# EAGLE library part USB251X (library Microchip)
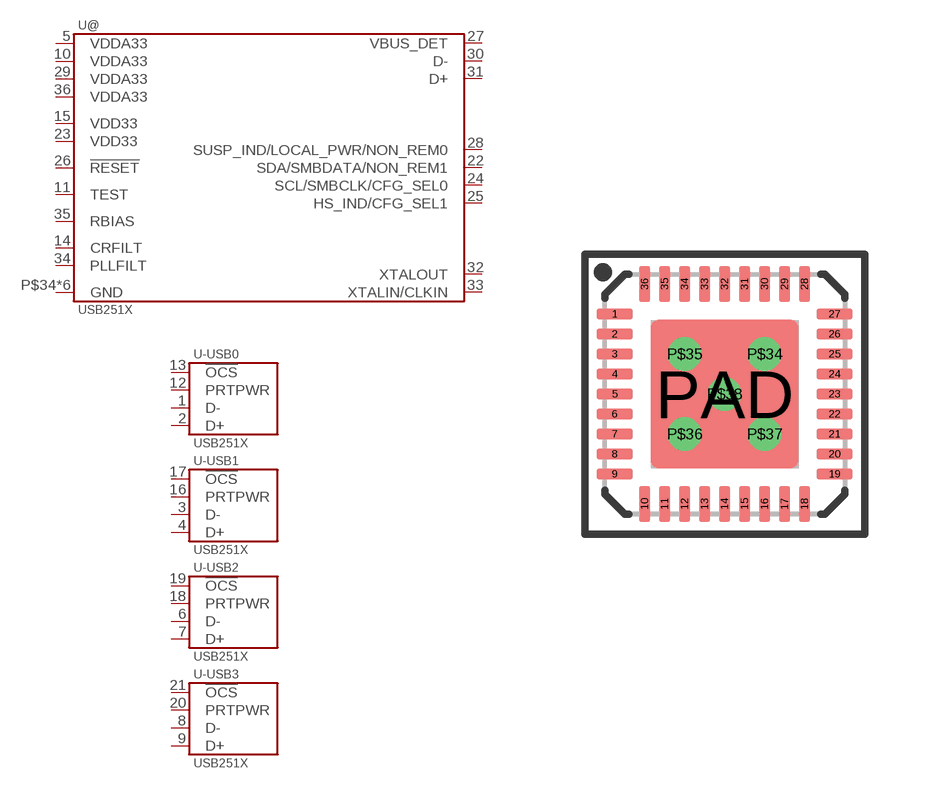
[diagram p14: symbol with the pads of QFN-36; footprint QFN-36]

Designator prefix U; gates @=USB251X -USB0=USB251X-USB -USB1=USB251X-USB -USB2=USB251X-USB -USB3=USB251X-USB

## USB251XB  [QFN-36]
1  -USB0:D-
2  -USB0:D+
3  -USB1:D-
4  -USB1:D+
5  @:VDDA33
6  -USB2:D-
7  -USB2:D+
8  -USB3:D-
9  -USB3:D+
10  @:VDDA33
11  @:TEST
12  -USB0:PRTPWR
13  -USB0:!OCS
14  @:CRFILT
15  @:VDD33
16  -USB1:PRTPWR
17  -USB1:!OCS
18  -USB2:PRTPWR
19  -USB2:!OCS
20  -USB3:PRTPWR
21  -USB3:!OCS
22  @:SDA/SMBDATA/NON_REM1
23  @:VDD33
24  @:SCL/SMBCLK/CFG_SEL0
25  @:HS_IND/CFG_SEL1
26  @:!RESET
27  @:VBUS_DET
28  @:SUSP_IND/LOCAL_PWR/NON_REM0
29  @:VDDA33
30  @:D-
31  @:D+
32  @:XTALOUT
33  @:XTALIN/CLKIN
34  @:PLLFILT
35  @:RBIAS
36  @:VDDA33
P$34  @:GND
P$35  @:GND
P$36  @:GND
P$37  @:GND
P$38  @:GND
PAD  @:GND

## Footprint QFN-36 (pad centres in mm)
smd 0.9 x 0.28: 1 -2.75,2; 2 -2.75,1.5; 3 -2.75,1; 4 -2.75,0.5; 5 -2.75,0; 6 -2.75,-0.5; 7 -2.75,-1; 8 -2.75,-1.5; 9 -2.75,-2; 19 2.75,-2; 20 2.75,-1.5; 21 2.75,-1; 22 2.75,-0.5; 23 2.75,0; 24 2.75,0.5; 25 2.75,1; 26 2.75,1.5; 27 2.75,2
smd 0.28 x 0.9: 10 -2,-2.75; 11 -1.5,-2.75; 12 -1,-2.75; 13 -0.5,-2.75; 14 0,-2.75; 15 0.5,-2.75; 16 1,-2.75; 17 1.5,-2.75; 18 2,-2.75; 28 2,2.75; 29 1.5,2.75; 30 1,2.75; 31 0.5,2.75; 32 0,2.75; 33 -0.5,2.75; 34 -1,2.75; 35 -1.5,2.75; 36 -2,2.75
drill 0.33: P$34 1,1; P$35 -1,1; P$36 -1,-1; P$37 1,-1; P$38 0,0
smd 3.7 x 3.7: PAD 0,0